# Altium footprint library Sensor_Current.PcbLib: 35 footprints (part 2 of 3)
Each footprint in its own frame and in the unit in brackets; x right, y up, seen from the top. Pads: shape width x height; smd on the part's side, far side on the other; paste and mask are expansions set on the pad; w line width, h text height; cw(c..) or ccw(c..) is an arc to the next point about the centre after c.
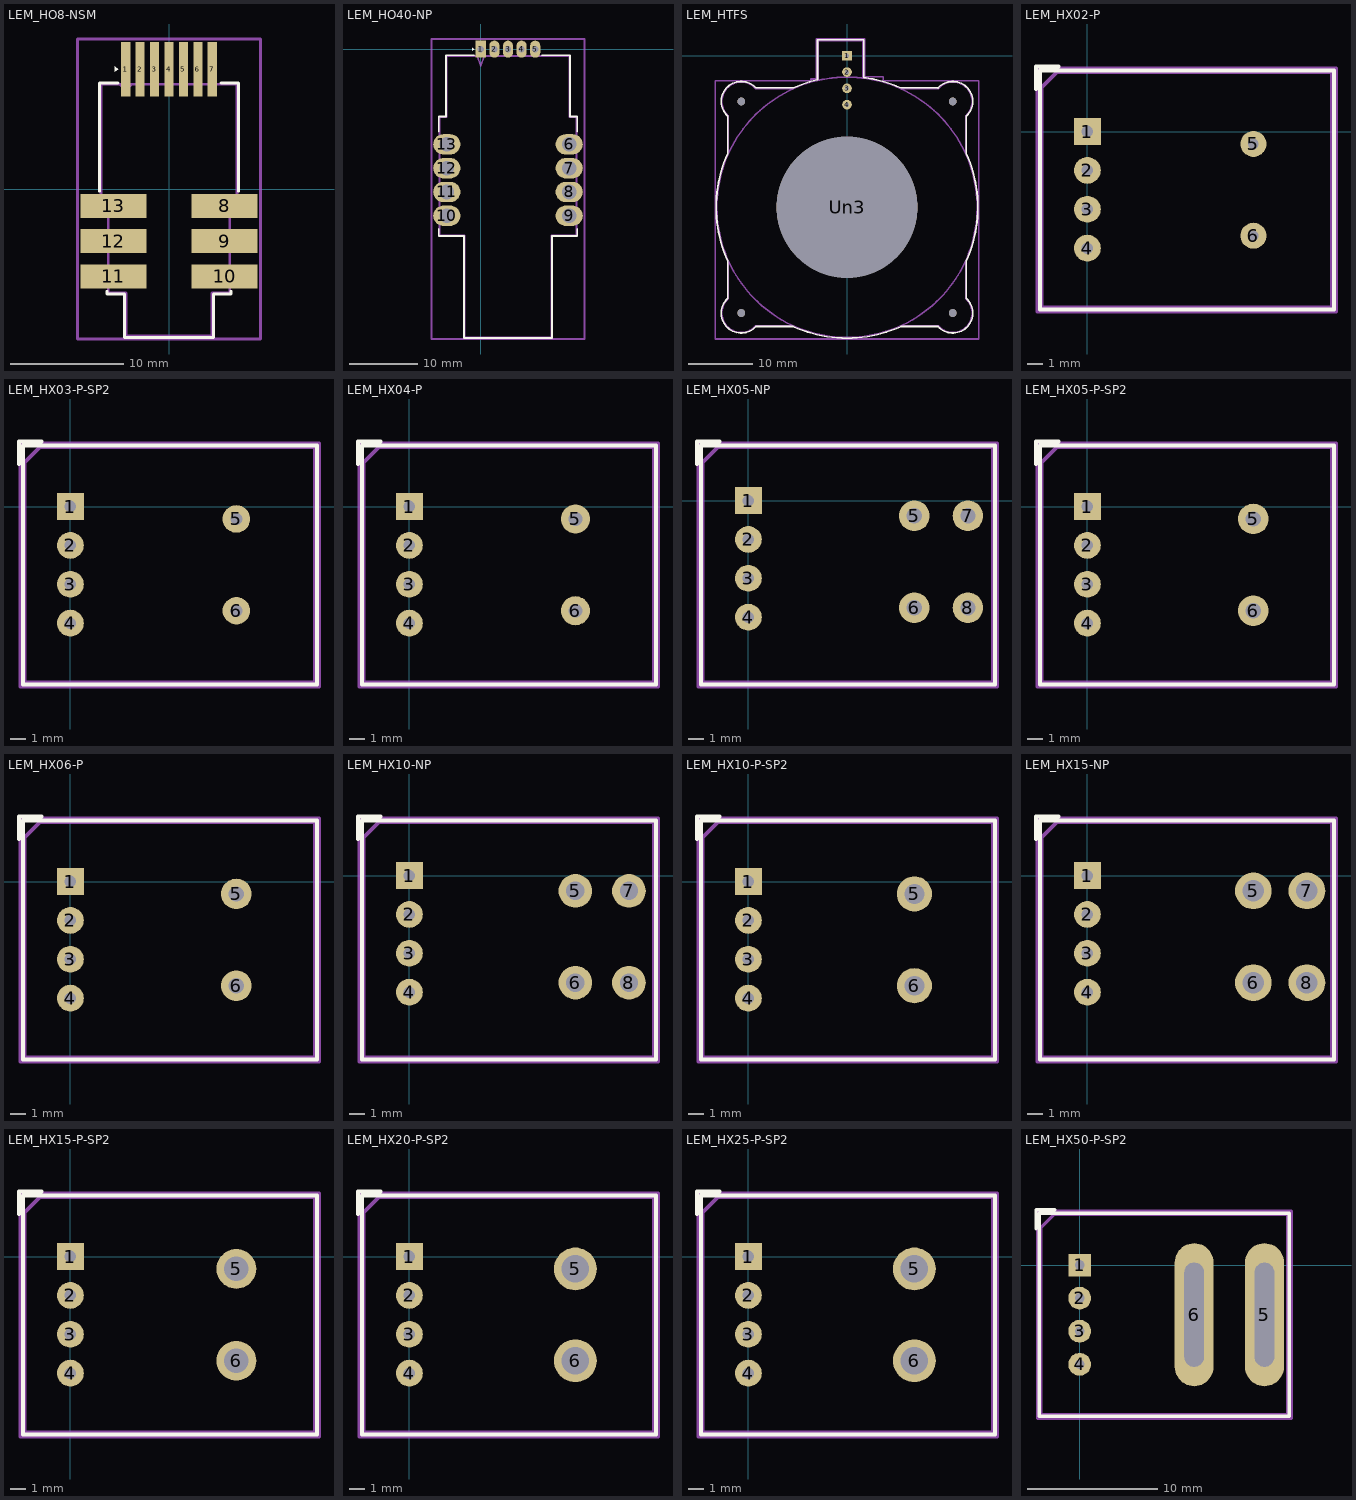
[diagram p1: the footprints below, top view; thin cyan lines are the x and y axes]

## LEM_HO8-NSM [mm]
pads (13):
  rect 0.8x4.8 smd: 1(-3.81,10.545) 2(-2.54,10.545) 3(-1.27,10.545) 4(0,10.545) 5(1.27,10.545) 6(2.54,10.545) 7(3.81,10.545)
  rect 5.8x2.1 smd: 8(4.9,-1.485) 9(4.9,-4.585) 10(4.9,-7.685) 11(-4.9,-7.685) 12(-4.9,-4.585) 13(-4.9,-1.485)
F.SilkS:
  region: -4.45,10.55 -4.78,10.31 -4.78,10.79
  lines w0.254: -6.11,-0.2 -6.11,9.325 -4.5,9.325 ; -5.46,-9 -5.46,-9.255 -3.91,-9.255 -3.91,-13.055 3.91,-13.055 3.91,-9.255 5.46,-9.255 5.46,-9 ; 4.59,9.325 6.11,9.325 6.11,-0.2
F.Fab:
  lines w0.254: -4.31,9.215 -3.81,8.715 -3.31,9.215 ; -6,-0.69 -6,9.215 6,9.215 6,-0.69 5.35,-0.69 5.35,-9.145 3.8,-9.145 3.8,-12.945 -3.8,-12.945 -3.8,-9.145 -5.35,-9.145 -5.35,-0.69 -6,-0.69
  text "'.Designator'" at 2.04,-4.047 h1
F.CrtYd:
  lines w0.254: -8.05,-13.2 -8.05,13.2 8.05,13.2 8.05,-13.2 -8.05,-13.2

## LEM_HO40-NP [mm]
pads (13):
  rect 1.5x2.5 hole 0.9: 1(0,0)
  rrect100% 1.5x2.5 hole 0.9: 2(2,0) 3(4,0) 4(6,0) 5(8,0)
  rrect100% 4x3 hole 2.15: 6(13,-14) 7(13,-17.5) 8(13,-21) 9(13,-24.5) 10(-5,-24.5) 11(-5,-21) 12(-5,-17.5) 13(-5,-14)
F.SilkS:
  region: -0.95,0 -1.28,-0.24 -1.28,0.24
  lines w0.254: -6.175,-26.4 -6.175,-27.49 -2.47,-27.49 -2.47,-42.49 10.47,-42.49 10.47,-27.49 14.175,-27.49 14.175,-26.4 ; -6.175,-12.1 -6.175,-9.89 -5.11,-9.89 -5.11,-0.89 -0.95,-0.89 ; 8.95,-0.89 13.11,-0.89 13.11,-9.89 14.175,-9.89 14.175,-12.1
F.Fab:
  lines w0.254: -0.5,-1 0,-2.5 0.5,-1 ; -6.065,-27.38 -6.065,-10 -5,-10 -5,-1 13,-1 13,-10 14.065,-10 14.065,-27.38 10.36,-27.38 10.36,-42.38 -2.36,-42.38 -2.36,-27.38 -6.065,-27.38
  text "'.Designator'" at -0.047,-18.34 h1
F.CrtYd:
  lines w0.254: -7.25,-42.63 -7.25,1.5 15.25,1.5 15.25,-42.63 -7.25,-42.63

## LEM_HTFS [mm]
pads (9):
  rect 1.5x1.5 hole 0.7: 1(0,0)
  round 1.5 hole 0.7: 2(0,-2.54) 3(0,-5.08) 4(0,-7.62)
  round 1.2 hole 1.2: Un1(-16.5,-7.12) Un2(-16.5,-40.12) Un4(16.5,-7.12) Un5(16.5,-40.12)
  round 22 hole 22: Un3(0,-23.62)
F.SilkS:
  lines w0.254: -18.615,-31.999 cw(c0,-23.62) -18.61,-15.23 -18.61,-9.42 ; -18.61,-32.01 -18.61,-37.82 ccw(c-16.5,-40.12) -14.198,-42.227 ; -18.607,-9.422 cw(c-16.5,-7.12) -14.2,-5.01 -8.38,-5.01 ; -14.2,-42.23 -8.38,-42.23 ; -8.379,-42.235 ccw(c0,-23.62) 8.39,-42.23 ; -8.351,-4.999 cw(c0,-23.62) -4.61,-3.74 -4.61,2.49 2.61,2.49 2.61,-3.37 ; 2.608,-3.378 cw(c0,-23.62) 8.38,-5.01 14.2,-5.01 ; 8.38,-42.23 14.2,-42.23 ccw(c16.5,-40.12) 18.607,-37.818 ; 14.198,-5.013 cw(c16.5,-7.12) 18.61,-9.42 18.61,-15.23 cw(c0,-23.62) 18.615,-31.999 ; 18.61,-37.82 18.61,-32.01
F.Fab:
  circle w0.254: c0,-23.62 r20.3
  lines w0.254: -18.501,-9.369 cw(c-16.5,-7.12) -14.25,-5.12 -8.36,-5.12 ; -18.5,-31.98 -18.5,-37.87 ccw(c-16.5,-40.12) -14.251,-42.121 ; -18.5,-15.26 -18.5,-9.37 ; -14.25,-42.12 -8.36,-42.12 ; -4.5,-3.82 -4.5,2.38 2.5,2.38 2.5,-3.47 ; 8.36,-42.12 14.25,-42.12 ccw(c16.5,-40.12) 18.501,-37.871 ; 8.36,-5.12 14.25,-5.12 ; 14.251,-5.119 cw(c16.5,-7.12) 18.5,-9.37 18.5,-15.26 ; 18.5,-37.87 18.5,-31.98
  text "'.Designator'" at -4.047,-12.34 h1
F.CrtYd:
  lines w0.254: -20.55,-44.17 -20.55,-3.87 -5.68,-3.87 -5.68,-3.62 -4.75,-3.62 -4.75,2.62 2.75,2.62 2.75,-3.25 5.68,-3.25 5.68,-3.87 20.55,-3.87 20.55,-44.17 -20.55,-44.17

## LEM_HX02-P [mm]
pads (6):
  rect 1.75x1.75 hole 0.76: 1(0,0)
  round 1.75 hole 0.76: 2(0,-2.54) 3(0,-5.08) 4(0,-7.62)
  round 1.7 hole 0.7: 5(10.85,-0.81) 6(10.85,-6.81)
F.SilkS:
  lines w0.254: -3.36,2.79 -3.36,4.25 -1.9,4.25 ; -3.11,-11.62 -3.11,4 16.11,4 16.11,-11.62 -3.11,-11.62
F.Fab:
  lines w0.254: 16,3.89 -2,3.89 -3,2.89 -3,-11.51 16,-11.51 16,4
  text "'.Designator'" at 1.373,-3.65 h1
F.CrtYd:
  lines w0.254: -3.25,-11.76 -3.25,4.14 16.25,4.14 16.25,-11.76 -3.25,-11.76

## LEM_HX03-P-SP2 [mm]
pads (6):
  rect 1.75x1.75 hole 0.76: 1(0,0)
  round 1.75 hole 0.76: 2(0,-2.54) 3(0,-5.08) 4(0,-7.62)
  round 1.8 hole 0.8: 5(10.85,-0.81) 6(10.85,-6.81)
F.SilkS:
  lines w0.254: -3.36,2.79 -3.36,4.25 -1.9,4.25 ; -3.11,-11.62 -3.11,4 16.11,4 16.11,-11.62 -3.11,-11.62
F.Fab:
  lines w0.254: 16,3.89 -2,3.89 -3,2.89 -3,-11.51 16,-11.51 16,4
  text "'.Designator'" at 1.373,-3.65 h1
F.CrtYd:
  lines w0.254: -3.25,-11.76 -3.25,4.14 16.25,4.14 16.25,-11.76 -3.25,-11.76

## LEM_HX04-P [mm]
pads (6):
  rect 1.75x1.75 hole 0.76: 1(0,0)
  round 1.75 hole 0.76: 2(0,-2.54) 3(0,-5.08) 4(0,-7.62)
  round 1.9 hole 0.9: 5(10.85,-0.81) 6(10.85,-6.81)
F.SilkS:
  lines w0.254: -3.36,2.79 -3.36,4.25 -1.9,4.25 ; -3.11,-11.62 -3.11,4 16.11,4 16.11,-11.62 -3.11,-11.62
F.Fab:
  lines w0.254: 16,3.89 -2,3.89 -3,2.89 -3,-11.51 16,-11.51 16,4
  text "'.Designator'" at 1.373,-3.65 h1
F.CrtYd:
  lines w0.254: -3.25,-11.76 -3.25,4.14 16.25,4.14 16.25,-11.76 -3.25,-11.76

## LEM_HX05-NP [mm]
pads (8):
  rect 1.75x1.75 hole 0.76: 1(0,0)
  round 1.75 hole 0.76: 2(0,-2.54) 3(0,-5.08) 4(0,-7.62)
  round 2 hole 1: 5(10.85,-1) 6(10.85,-7) 7(14.35,-1) 8(14.35,-7)
F.SilkS:
  lines w0.254: -3.36,2.4 -3.36,3.86 -1.9,3.86 ; -3.11,-12.01 -3.11,3.61 16.11,3.61 16.11,-12.01 -3.11,-12.01
F.Fab:
  lines w0.254: 16,3.5 -2,3.5 -3,2.5 -3,-11.9 16,-11.9 16,3.61
  text "'.Designator'" at 1.373,-4.04 h1
F.CrtYd:
  lines w0.254: -3.25,-12.15 -3.25,3.75 16.25,3.75 16.25,-12.15 -3.25,-12.15

## LEM_HX05-P-SP2 [mm]
pads (6):
  rect 1.75x1.75 hole 0.76: 1(0,0)
  round 1.75 hole 0.76: 2(0,-2.54) 3(0,-5.08) 4(0,-7.62)
  round 2 hole 1: 5(10.85,-0.81) 6(10.85,-6.81)
F.SilkS:
  lines w0.254: -3.36,2.79 -3.36,4.25 -1.9,4.25 ; -3.11,-11.62 -3.11,4 16.11,4 16.11,-11.62 -3.11,-11.62
F.Fab:
  lines w0.254: 16,3.89 -2,3.89 -3,2.89 -3,-11.51 16,-11.51 16,4
  text "'.Designator'" at 1.373,-3.65 h1
F.CrtYd:
  lines w0.254: -3.25,-11.76 -3.25,4.14 16.25,4.14 16.25,-11.76 -3.25,-11.76

## LEM_HX06-P [mm]
pads (6):
  rect 1.75x1.75 hole 0.76: 1(0,0)
  round 1.75 hole 0.76: 2(0,-2.54) 3(0,-5.08) 4(0,-7.62)
  round 2 hole 1: 5(10.85,-0.81) 6(10.85,-6.81)
F.SilkS:
  lines w0.254: -3.36,2.79 -3.36,4.25 -1.9,4.25 ; -3.11,-11.62 -3.11,4 16.11,4 16.11,-11.62 -3.11,-11.62
F.Fab:
  lines w0.254: 16,3.89 -2,3.89 -3,2.89 -3,-11.51 16,-11.51 16,4
  text "'.Designator'" at 1.373,-3.65 h1
F.CrtYd:
  lines w0.254: -3.25,-11.76 -3.25,4.14 16.25,4.14 16.25,-11.76 -3.25,-11.76

## LEM_HX10-NP [mm]
pads (8):
  rect 1.75x1.75 hole 0.76: 1(0,0)
  round 1.75 hole 0.76: 2(0,-2.54) 3(0,-5.08) 4(0,-7.62)
  round 2.2 hole 1.2: 5(10.85,-1) 6(10.85,-7) 7(14.35,-1) 8(14.35,-7)
F.SilkS:
  lines w0.254: -3.36,2.4 -3.36,3.86 -1.9,3.86 ; -3.11,-12.01 -3.11,3.61 16.11,3.61 16.11,-12.01 -3.11,-12.01
F.Fab:
  lines w0.254: 16,3.5 -2,3.5 -3,2.5 -3,-11.9 16,-11.9 16,3.61
  text "'.Designator'" at 1.373,-4.04 h1
F.CrtYd:
  lines w0.254: -3.25,-12.15 -3.25,3.75 16.25,3.75 16.25,-12.15 -3.25,-12.15

## LEM_HX10-P-SP2 [mm]
pads (6):
  rect 1.75x1.75 hole 0.76: 1(0,0)
  round 1.75 hole 0.76: 2(0,-2.54) 3(0,-5.08) 4(0,-7.62)
  round 2.3 hole 1.3: 5(10.85,-0.81) 6(10.85,-6.81)
F.SilkS:
  lines w0.254: -3.36,2.79 -3.36,4.25 -1.9,4.25 ; -3.11,-11.62 -3.11,4 16.11,4 16.11,-11.62 -3.11,-11.62
F.Fab:
  lines w0.254: 16,3.89 -2,3.89 -3,2.89 -3,-11.51 16,-11.51 16,4
  text "'.Designator'" at 1.373,-3.65 h1
F.CrtYd:
  lines w0.254: -3.25,-11.76 -3.25,4.14 16.25,4.14 16.25,-11.76 -3.25,-11.76

## LEM_HX15-NP [mm]
pads (8):
  rect 1.75x1.75 hole 0.76: 1(0,0)
  round 1.75 hole 0.76: 2(0,-2.54) 3(0,-5.08) 4(0,-7.62)
  round 2.4 hole 1.4: 5(10.85,-1) 6(10.85,-7) 7(14.35,-1) 8(14.35,-7)
F.SilkS:
  lines w0.254: -3.36,2.4 -3.36,3.86 -1.9,3.86 ; -3.11,-12.01 -3.11,3.61 16.11,3.61 16.11,-12.01 -3.11,-12.01
F.Fab:
  lines w0.254: 16,3.5 -2,3.5 -3,2.5 -3,-11.9 16,-11.9 16,3.61
  text "'.Designator'" at 1.373,-4.04 h1
F.CrtYd:
  lines w0.254: -3.25,-12.15 -3.25,3.75 16.25,3.75 16.25,-12.15 -3.25,-12.15

## LEM_HX15-P-SP2 [mm]
pads (6):
  rect 1.75x1.75 hole 0.76: 1(0,0)
  round 1.75 hole 0.76: 2(0,-2.54) 3(0,-5.08) 4(0,-7.62)
  round 2.6 hole 1.6: 5(10.85,-0.81) 6(10.85,-6.81)
F.SilkS:
  lines w0.254: -3.36,2.79 -3.36,4.25 -1.9,4.25 ; -3.11,-11.62 -3.11,4 16.11,4 16.11,-11.62 -3.11,-11.62
F.Fab:
  lines w0.254: 16,3.89 -2,3.89 -3,2.89 -3,-11.51 16,-11.51 16,4
  text "'.Designator'" at 1.373,-3.65 h1
F.CrtYd:
  lines w0.254: -3.25,-11.76 -3.25,4.14 16.25,4.14 16.25,-11.76 -3.25,-11.76

## LEM_HX20-P-SP2 [mm]
pads (6):
  rect 1.75x1.75 hole 0.76: 1(0,0)
  round 1.75 hole 0.76: 2(0,-2.54) 3(0,-5.08) 4(0,-7.62)
  round 2.8 hole 1.8: 5(10.85,-0.81) 6(10.85,-6.81)
F.SilkS:
  lines w0.254: -3.36,2.79 -3.36,4.25 -1.9,4.25 ; -3.11,-11.62 -3.11,4 16.11,4 16.11,-11.62 -3.11,-11.62
F.Fab:
  lines w0.254: 16,3.89 -2,3.89 -3,2.89 -3,-11.51 16,-11.51 16,4
  text "'.Designator'" at 1.373,-3.65 h1
F.CrtYd:
  lines w0.254: -3.25,-11.76 -3.25,4.14 16.25,4.14 16.25,-11.76 -3.25,-11.76

## LEM_HX25-P-SP2 [mm]
pads (6):
  rect 1.75x1.75 hole 0.76: 1(0,0)
  round 1.75 hole 0.76: 2(0,-2.54) 3(0,-5.08) 4(0,-7.62)
  round 2.8 hole 1.8: 5(10.85,-0.81) 6(10.85,-6.81)
F.SilkS:
  lines w0.254: -3.36,2.79 -3.36,4.25 -1.9,4.25 ; -3.11,-11.62 -3.11,4 16.11,4 16.11,-11.62 -3.11,-11.62
F.Fab:
  lines w0.254: 16,3.89 -2,3.89 -3,2.89 -3,-11.51 16,-11.51 16,4
  text "'.Designator'" at 1.373,-3.65 h1
F.CrtYd:
  lines w0.254: -3.25,-11.76 -3.25,4.14 16.25,4.14 16.25,-11.76 -3.25,-11.76

## LEM_HX50-P-SP2 [mm]
pads (6):
  rect 1.75x1.75 hole 0.76: 1(0,0)
  round 1.75 hole 0.76: 2(0,-2.54) 3(0,-5.08) 4(0,-7.62)
  rrect100% 3x11 hole 8 slot 1.5 at 0 deg: 5(14.2,-3.81) 6(8.8,-3.81)
F.SilkS:
  lines w0.254: -3.36,2.79 -3.36,4.25 -1.9,4.25 ; -3.11,-11.62 16.11,-11.62 16.11,4 -3.11,4 -3.11,-11.62
F.Fab:
  lines w0.254: 16,3.89 -2,3.89 -3,2.89 -3,-11.51 16,-11.51 16,4
  text "'.Designator'" at 1.373,-3.65 h1
F.CrtYd:
  lines w0.254: -3.25,-11.76 16.25,-11.76 16.25,4.14 -3.25,4.14 -3.25,-11.76